# Altium footprint library con-weidmueller-sl35.PCBLIB: 184 footprints (part 6 of 12)
Each footprint in its own frame and in the unit in brackets; x right, y up, seen from the top. Pads: shape width x height; smd on the part's side, far side on the other; paste and mask are expansions set on the pad; w line width, h text height; cw(c..) or ccw(c..) is an arc to the next point about the centre after c.
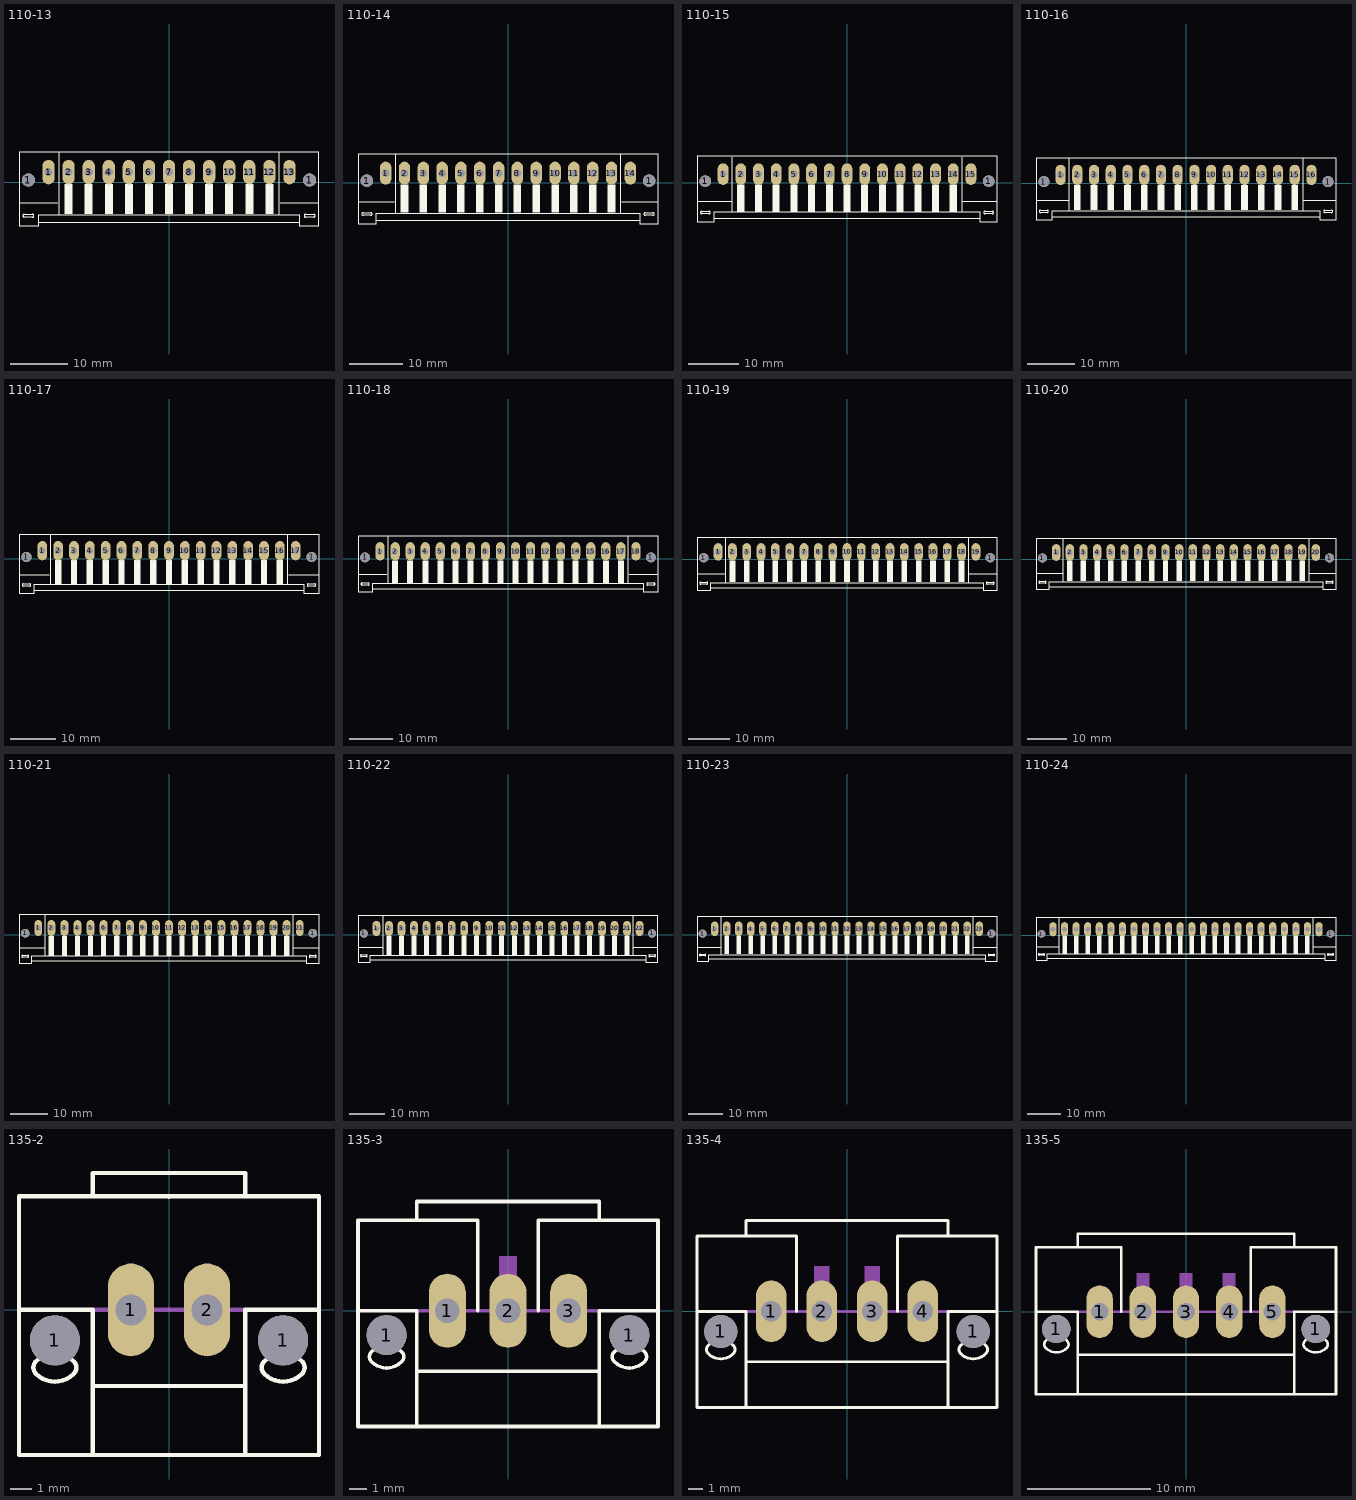
[diagram p5: the footprints below, top view; thin cyan lines are the x and y axes]

## 110-13 [mil]
pads (15):
  round 90.55 hole 90.55: 1(-964.57,13.78) 1(964.57,13.78)
  oval 84x168 hole 56: 1(-826.77,68.9) 2(-688.98,68.9) 3(-551.18,68.9) 4(-413.39,68.9) 5(-275.59,68.9) 6(-137.8,68.9) 7(0,68.9) 8(137.8,68.9) 9(275.59,68.9) 10(413.39,68.9) 11(551.18,68.9) 12(688.98,68.9) 13(826.77,68.9)
Top Overlay:
  rectangle: -716.54,-220.47 -661.42,-13.78
  rectangle: -578.74,-220.47 -523.62,-13.78
  rectangle: -440.94,-220.47 -385.83,-13.78
  rectangle: -303.15,-220.47 -248.03,-13.78
  rectangle: -165.35,-220.47 -110.24,-13.78
  rectangle: -27.56,-220.47 27.56,-13.78
  rectangle: 110.24,-220.47 165.35,-13.78
  rectangle: 248.03,-220.47 303.15,-13.78
  rectangle: 385.83,-220.47 440.94,-13.78
  rectangle: 523.62,-220.47 578.74,-13.78
  rectangle: 661.42,-220.47 716.54,-13.78
  lines w8: -1026.57,-144.69 -764.76,-144.69 ; -757.87,-220.47 -757.87,201.77 ; 757.87,-220.47 757.87,201.77 ; 764.76,-144.69 1026.57,-144.69 ; -895.67,-275.59 -895.67,-301.18 -1029.53,-301.18 -1029.53,206.69 1029.53,206.69 1029.53,-301.18 895.67,-301.18 895.67,-275.59 ; -895.67,-275.59 895.67,-275.59 ; -895.67,-275.59 -895.67,-225.39 895.67,-225.39 895.67,-275.59 ; -992.13,-241.14 cw(c-992.13,-230.81) -992.13,-220.47 -937.01,-220.47 cw(c-937.01,-230.81) -937.01,-241.14 -992.13,-241.14 ; 937.01,-241.14 cw(c937.01,-230.81) 937.01,-220.47 992.13,-220.47 cw(c992.13,-230.81) 992.13,-241.14 937.01,-241.14

## 110-14 [mil]
pads (16):
  round 90.55 hole 90.55: 1(-1033.46,13.78) 1(1033.46,13.78)
  oval 84x168 hole 56: 1(-895.67,68.9) 2(-757.87,68.9) 3(-620.08,68.9) 4(-482.28,68.9) 5(-344.49,68.9) 6(-206.69,68.9) 7(-68.9,68.9) 8(68.9,68.9) 9(206.69,68.9) 10(344.49,68.9) 11(482.28,68.9) 12(620.08,68.9) 13(757.87,68.9) 14(895.67,68.9)
Top Overlay:
  rectangle: -785.43,-220.47 -730.32,-13.78
  rectangle: -647.64,-220.47 -592.52,-13.78
  rectangle: -509.84,-220.47 -454.72,-13.78
  rectangle: -372.05,-220.47 -316.93,-13.78
  rectangle: -234.25,-220.47 -179.13,-13.78
  rectangle: -96.46,-220.47 -41.34,-13.78
  rectangle: 41.34,-220.47 96.46,-13.78
  rectangle: 179.13,-220.47 234.25,-13.78
  rectangle: 316.93,-220.47 372.05,-13.78
  rectangle: 454.72,-220.47 509.84,-13.78
  rectangle: 592.52,-220.47 647.64,-13.78
  rectangle: 730.32,-220.47 785.43,-13.78
  lines w8: -1095.47,-144.69 -833.66,-144.69 ; -826.77,-220.47 -826.77,201.77 ; 826.77,-220.47 826.77,201.77 ; 833.66,-144.69 1095.47,-144.69 ; -964.57,-275.59 -964.57,-301.18 -1098.43,-301.18 -1098.43,206.69 1098.43,206.69 1098.43,-301.18 964.57,-301.18 964.57,-275.59 ; -964.57,-275.59 964.57,-275.59 ; -964.57,-275.59 -964.57,-225.39 964.57,-225.39 964.57,-275.59 ; -1061.02,-241.14 cw(c-1061.02,-230.81) -1061.02,-220.47 -1005.91,-220.47 cw(c-1005.91,-230.81) -1005.91,-241.14 -1061.02,-241.14 ; 1005.91,-241.14 cw(c1005.91,-230.81) 1005.91,-220.47 1061.02,-220.47 cw(c1061.02,-230.81) 1061.02,-241.14 1005.91,-241.14

## 110-15 [mil]
pads (17):
  round 90.55 hole 90.55: 1(-1102.36,13.78) 1(1102.36,13.78)
  oval 84x168 hole 56: 1(-964.57,68.9) 2(-826.77,68.9) 3(-688.98,68.9) 4(-551.18,68.9) 5(-413.39,68.9) 6(-275.59,68.9) 7(-137.8,68.9) 8(0,68.9) 9(137.8,68.9) 10(275.59,68.9) 11(413.39,68.9) 12(551.18,68.9) 13(688.98,68.9) 14(826.77,68.9) 15(964.57,68.9)
Top Overlay:
  rectangle: -854.33,-220.47 -799.21,-13.78
  rectangle: -716.54,-220.47 -661.42,-13.78
  rectangle: -578.74,-220.47 -523.62,-13.78
  rectangle: -440.94,-220.47 -385.83,-13.78
  rectangle: -303.15,-220.47 -248.03,-13.78
  rectangle: -165.35,-220.47 -110.24,-13.78
  rectangle: -27.56,-220.47 27.56,-13.78
  rectangle: 110.24,-220.47 165.35,-13.78
  rectangle: 248.03,-220.47 303.15,-13.78
  rectangle: 385.83,-220.47 440.94,-13.78
  rectangle: 523.62,-220.47 578.74,-13.78
  rectangle: 661.42,-220.47 716.54,-13.78
  rectangle: 799.21,-220.47 854.33,-13.78
  lines w8: -1164.37,-144.69 -902.56,-144.69 ; -895.67,-220.47 -895.67,201.77 ; 895.67,-220.47 895.67,201.77 ; 902.56,-144.69 1164.37,-144.69 ; -1033.46,-275.59 -1033.46,-301.18 -1167.32,-301.18 -1167.32,206.69 1167.32,206.69 1167.32,-301.18 1033.46,-301.18 1033.46,-275.59 ; -1033.46,-275.59 1033.46,-275.59 ; -1033.46,-275.59 -1033.46,-225.39 1033.46,-225.39 1033.46,-275.59 ; -1129.92,-241.14 cw(c-1129.92,-230.81) -1129.92,-220.47 -1074.8,-220.47 cw(c-1074.8,-230.81) -1074.8,-241.14 -1129.92,-241.14 ; 1074.8,-241.14 cw(c1074.8,-230.81) 1074.8,-220.47 1129.92,-220.47 cw(c1129.92,-230.81) 1129.92,-241.14 1074.8,-241.14

## 110-16 [mil]
pads (18):
  round 90.55 hole 90.55: 1(-1171.26,13.78) 1(1171.26,13.78)
  oval 84x168 hole 56: 1(-1033.46,68.9) 2(-895.67,68.9) 3(-757.87,68.9) 4(-620.08,68.9) 5(-482.28,68.9) 6(-344.49,68.9) 7(-206.69,68.9) 8(-68.9,68.9) 9(68.9,68.9) 10(206.69,68.9) 11(344.49,68.9) 12(482.28,68.9) 13(620.08,68.9) 14(757.87,68.9) 15(895.67,68.9) 16(1033.46,68.9)
Top Overlay:
  rectangle: -923.23,-220.47 -868.11,-13.78
  rectangle: -785.43,-220.47 -730.32,-13.78
  rectangle: -647.64,-220.47 -592.52,-13.78
  rectangle: -509.84,-220.47 -454.72,-13.78
  rectangle: -372.05,-220.47 -316.93,-13.78
  rectangle: -234.25,-220.47 -179.13,-13.78
  rectangle: -96.46,-220.47 -41.34,-13.78
  rectangle: 41.34,-220.47 96.46,-13.78
  rectangle: 179.13,-220.47 234.25,-13.78
  rectangle: 316.93,-220.47 372.05,-13.78
  rectangle: 454.72,-220.47 509.84,-13.78
  rectangle: 592.52,-220.47 647.64,-13.78
  rectangle: 730.32,-220.47 785.43,-13.78
  rectangle: 868.11,-220.47 923.23,-13.78
  lines w8: -1233.27,-144.69 -971.46,-144.69 ; -964.57,-220.47 -964.57,201.77 ; 964.57,-220.47 964.57,201.77 ; 971.46,-144.69 1233.27,-144.69 ; -1102.36,-275.59 -1102.36,-301.18 -1236.22,-301.18 -1236.22,206.69 1236.22,206.69 1236.22,-301.18 1102.36,-301.18 1102.36,-275.59 ; -1102.36,-275.59 1102.36,-275.59 ; -1102.36,-275.59 -1102.36,-225.39 1102.36,-225.39 1102.36,-275.59 ; -1198.82,-241.14 cw(c-1198.82,-230.81) -1198.82,-220.47 -1143.7,-220.47 cw(c-1143.7,-230.81) -1143.7,-241.14 -1198.82,-241.14 ; 1143.7,-241.14 cw(c1143.7,-230.81) 1143.7,-220.47 1198.82,-220.47 cw(c1198.82,-230.81) 1198.82,-241.14 1143.7,-241.14

## 110-17 [mil]
pads (19):
  round 90.55 hole 90.55: 1(-1240.16,13.78) 1(1240.16,13.78)
  oval 84x168 hole 56: 1(-1102.36,68.9) 2(-964.57,68.9) 3(-826.77,68.9) 4(-688.98,68.9) 5(-551.18,68.9) 6(-413.39,68.9) 7(-275.59,68.9) 8(-137.8,68.9) 9(0,68.9) 10(137.8,68.9) 11(275.59,68.9) 12(413.39,68.9) 13(551.18,68.9) 14(688.98,68.9) 15(826.77,68.9) 16(964.57,68.9) 17(1102.36,68.9)
Top Overlay:
  rectangle: -992.13,-220.47 -937.01,-13.78
  rectangle: -854.33,-220.47 -799.21,-13.78
  rectangle: -716.54,-220.47 -661.42,-13.78
  rectangle: -578.74,-220.47 -523.62,-13.78
  rectangle: -440.94,-220.47 -385.83,-13.78
  rectangle: -303.15,-220.47 -248.03,-13.78
  rectangle: -165.35,-220.47 -110.24,-13.78
  rectangle: -27.56,-220.47 27.56,-13.78
  rectangle: 110.24,-220.47 165.35,-13.78
  rectangle: 248.03,-220.47 303.15,-13.78
  rectangle: 385.83,-220.47 440.94,-13.78
  rectangle: 523.62,-220.47 578.74,-13.78
  rectangle: 661.42,-220.47 716.54,-13.78
  rectangle: 799.21,-220.47 854.33,-13.78
  rectangle: 937.01,-220.47 992.13,-13.78
  lines w8: -1302.17,-144.69 -1040.35,-144.69 ; -1033.46,-220.47 -1033.46,201.77 ; 1033.46,-220.47 1033.46,201.77 ; 1040.35,-144.69 1302.17,-144.69 ; -1171.26,-275.59 -1171.26,-301.18 -1305.12,-301.18 -1305.12,206.69 1305.12,206.69 1305.12,-301.18 1171.26,-301.18 1171.26,-275.59 ; -1171.26,-275.59 1171.26,-275.59 ; -1171.26,-275.59 -1171.26,-225.39 1171.26,-225.39 1171.26,-275.59 ; -1267.72,-241.14 cw(c-1267.72,-230.81) -1267.72,-220.47 -1212.6,-220.47 cw(c-1212.6,-230.81) -1212.6,-241.14 -1267.72,-241.14 ; 1212.6,-241.14 cw(c1212.6,-230.81) 1212.6,-220.47 1267.72,-220.47 cw(c1267.72,-230.81) 1267.72,-241.14 1212.6,-241.14

## 110-18 [mil]
pads (20):
  round 90.55 hole 90.55: 1(-1309.06,13.78) 1(1309.06,13.78)
  oval 84x168 hole 56: 1(-1171.26,68.9) 2(-1033.46,68.9) 3(-895.67,68.9) 4(-757.87,68.9) 5(-620.08,68.9) 6(-482.28,68.9) 7(-344.49,68.9) 8(-206.69,68.9) 9(-68.9,68.9) 10(68.9,68.9) 11(206.69,68.9) 12(344.49,68.9) 13(482.28,68.9) 14(620.08,68.9) 15(757.87,68.9) 16(895.67,68.9) 17(1033.46,68.9) 18(1171.26,68.9)
Top Overlay:
  rectangle: -1061.02,-220.47 -1005.91,-13.78
  rectangle: -923.23,-220.47 -868.11,-13.78
  rectangle: -785.43,-220.47 -730.32,-13.78
  rectangle: -647.64,-220.47 -592.52,-13.78
  rectangle: -509.84,-220.47 -454.72,-13.78
  rectangle: -372.05,-220.47 -316.93,-13.78
  rectangle: -234.25,-220.47 -179.13,-13.78
  rectangle: -96.46,-220.47 -41.34,-13.78
  rectangle: 41.34,-220.47 96.46,-13.78
  rectangle: 179.13,-220.47 234.25,-13.78
  rectangle: 316.93,-220.47 372.05,-13.78
  rectangle: 454.72,-220.47 509.84,-13.78
  rectangle: 592.52,-220.47 647.64,-13.78
  rectangle: 730.32,-220.47 785.43,-13.78
  rectangle: 868.11,-220.47 923.23,-13.78
  rectangle: 1005.91,-220.47 1061.02,-13.78
  lines w8: -1371.06,-144.69 -1109.25,-144.69 ; -1102.36,-220.47 -1102.36,201.77 ; 1102.36,-220.47 1102.36,201.77 ; 1109.25,-144.69 1371.06,-144.69 ; -1240.16,-275.59 -1240.16,-301.18 -1374.02,-301.18 -1374.02,206.69 1374.02,206.69 1374.02,-301.18 1240.16,-301.18 1240.16,-275.59 ; -1240.16,-275.59 1240.16,-275.59 ; -1240.16,-275.59 -1240.16,-225.39 1240.16,-225.39 1240.16,-275.59 ; -1336.61,-241.14 cw(c-1336.61,-230.81) -1336.61,-220.47 -1281.5,-220.47 cw(c-1281.5,-230.81) -1281.5,-241.14 -1336.61,-241.14 ; 1281.5,-241.14 cw(c1281.5,-230.81) 1281.5,-220.47 1336.61,-220.47 cw(c1336.61,-230.81) 1336.61,-241.14 1281.5,-241.14

## 110-19 [mil]
pads (21):
  round 90.55 hole 90.55: 1(-1377.95,13.78) 1(1377.95,13.78)
  oval 84x168 hole 56: 1(-1240.16,68.9) 2(-1102.36,68.9) 3(-964.57,68.9) 4(-826.77,68.9) 5(-688.98,68.9) 6(-551.18,68.9) 7(-413.39,68.9) 8(-275.59,68.9) 9(-137.8,68.9) 10(0,68.9) 11(137.8,68.9) 12(275.59,68.9) 13(413.39,68.9) 14(551.18,68.9) 15(688.98,68.9) 16(826.77,68.9) 17(964.57,68.9) 18(1102.36,68.9) 19(1240.16,68.9)
Top Overlay:
  rectangle: -1129.92,-220.47 -1074.8,-13.78
  rectangle: -992.13,-220.47 -937.01,-13.78
  rectangle: -854.33,-220.47 -799.21,-13.78
  rectangle: -716.54,-220.47 -661.42,-13.78
  rectangle: -578.74,-220.47 -523.62,-13.78
  rectangle: -440.94,-220.47 -385.83,-13.78
  rectangle: -303.15,-220.47 -248.03,-13.78
  rectangle: -165.35,-220.47 -110.24,-13.78
  rectangle: -27.56,-220.47 27.56,-13.78
  rectangle: 110.24,-220.47 165.35,-13.78
  rectangle: 248.03,-220.47 303.15,-13.78
  rectangle: 385.83,-220.47 440.94,-13.78
  rectangle: 523.62,-220.47 578.74,-13.78
  rectangle: 661.42,-220.47 716.54,-13.78
  rectangle: 799.21,-220.47 854.33,-13.78
  rectangle: 937.01,-220.47 992.13,-13.78
  rectangle: 1074.8,-220.47 1129.92,-13.78
  lines w8: -1439.96,-144.69 -1178.15,-144.69 ; -1171.26,-220.47 -1171.26,201.77 ; 1171.26,-220.47 1171.26,201.77 ; 1178.15,-144.69 1439.96,-144.69 ; -1309.06,-275.59 -1309.06,-301.18 -1442.91,-301.18 -1442.91,206.69 1442.91,206.69 1442.91,-301.18 1309.06,-301.18 1309.06,-275.59 ; -1309.06,-275.59 1309.06,-275.59 ; -1309.06,-275.59 -1309.06,-225.39 1309.06,-225.39 1309.06,-275.59 ; -1405.51,-241.14 cw(c-1405.51,-230.81) -1405.51,-220.47 -1350.39,-220.47 cw(c-1350.39,-230.81) -1350.39,-241.14 -1405.51,-241.14 ; 1350.39,-241.14 cw(c1350.39,-230.81) 1350.39,-220.47 1405.51,-220.47 cw(c1405.51,-230.81) 1405.51,-241.14 1350.39,-241.14

## 110-20 [mil]
pads (22):
  round 90.55 hole 90.55: 1(-1446.85,13.78) 1(1446.85,13.78)
  oval 84x168 hole 56: 1(-1309.06,68.9) 2(-1171.26,68.9) 3(-1033.46,68.9) 4(-895.67,68.9) 5(-757.87,68.9) 6(-620.08,68.9) 7(-482.28,68.9) 8(-344.49,68.9) 9(-206.69,68.9) 10(-68.9,68.9) 11(68.9,68.9) 12(206.69,68.9) 13(344.49,68.9) 14(482.28,68.9) 15(620.08,68.9) 16(757.87,68.9) 17(895.67,68.9) 18(1033.46,68.9) 19(1171.26,68.9) 20(1309.06,68.9)
Top Overlay:
  rectangle: -1198.82,-220.47 -1143.7,-13.78
  rectangle: -1061.02,-220.47 -1005.91,-13.78
  rectangle: -923.23,-220.47 -868.11,-13.78
  rectangle: -785.43,-220.47 -730.32,-13.78
  rectangle: -647.64,-220.47 -592.52,-13.78
  rectangle: -509.84,-220.47 -454.72,-13.78
  rectangle: -372.05,-220.47 -316.93,-13.78
  rectangle: -234.25,-220.47 -179.13,-13.78
  rectangle: -96.46,-220.47 -41.34,-13.78
  rectangle: 41.34,-220.47 96.46,-13.78
  rectangle: 179.13,-220.47 234.25,-13.78
  rectangle: 316.93,-220.47 372.05,-13.78
  rectangle: 454.72,-220.47 509.84,-13.78
  rectangle: 592.52,-220.47 647.64,-13.78
  rectangle: 730.32,-220.47 785.43,-13.78
  rectangle: 868.11,-220.47 923.23,-13.78
  rectangle: 1005.91,-220.47 1061.02,-13.78
  rectangle: 1143.7,-220.47 1198.82,-13.78
  lines w8: -1508.86,-144.69 -1247.05,-144.69 ; -1240.16,-220.47 -1240.16,201.77 ; 1240.16,-220.47 1240.16,201.77 ; 1247.05,-144.69 1508.86,-144.69 ; -1377.95,-275.59 -1377.95,-301.18 -1511.81,-301.18 -1511.81,206.69 1511.81,206.69 1511.81,-301.18 1377.95,-301.18 1377.95,-275.59 ; -1377.95,-275.59 1377.95,-275.59 ; -1377.95,-275.59 -1377.95,-225.39 1377.95,-225.39 1377.95,-275.59 ; -1474.41,-241.14 cw(c-1474.41,-230.81) -1474.41,-220.47 -1419.29,-220.47 cw(c-1419.29,-230.81) -1419.29,-241.14 -1474.41,-241.14 ; 1419.29,-241.14 cw(c1419.29,-230.81) 1419.29,-220.47 1474.41,-220.47 cw(c1474.41,-230.81) 1474.41,-241.14 1419.29,-241.14

## 110-21 [mil]
pads (23):
  round 90.55 hole 90.55: 1(-1515.75,13.78) 1(1515.75,13.78)
  oval 84x168 hole 56: 1(-1377.95,68.9) 2(-1240.16,68.9) 3(-1102.36,68.9) 4(-964.57,68.9) 5(-826.77,68.9) 6(-688.98,68.9) 7(-551.18,68.9) 8(-413.39,68.9) 9(-275.59,68.9) 10(-137.8,68.9) 11(0,68.9) 12(137.8,68.9) 13(275.59,68.9) 14(413.39,68.9) 15(551.18,68.9) 16(688.98,68.9) 17(826.77,68.9) 18(964.57,68.9) 19(1102.36,68.9) 20(1240.16,68.9) 21(1377.95,68.9)
Top Overlay:
  rectangle: -1267.72,-220.47 -1212.6,-13.78
  rectangle: -1129.92,-220.47 -1074.8,-13.78
  rectangle: -992.13,-220.47 -937.01,-13.78
  rectangle: -854.33,-220.47 -799.21,-13.78
  rectangle: -716.54,-220.47 -661.42,-13.78
  rectangle: -578.74,-220.47 -523.62,-13.78
  rectangle: -440.94,-220.47 -385.83,-13.78
  rectangle: -303.15,-220.47 -248.03,-13.78
  rectangle: -165.35,-220.47 -110.24,-13.78
  rectangle: -27.56,-220.47 27.56,-13.78
  rectangle: 110.24,-220.47 165.35,-13.78
  rectangle: 248.03,-220.47 303.15,-13.78
  rectangle: 385.83,-220.47 440.94,-13.78
  rectangle: 523.62,-220.47 578.74,-13.78
  rectangle: 661.42,-220.47 716.54,-13.78
  rectangle: 799.21,-220.47 854.33,-13.78
  rectangle: 937.01,-220.47 992.13,-13.78
  rectangle: 1074.8,-220.47 1129.92,-13.78
  rectangle: 1212.6,-220.47 1267.72,-13.78
  lines w8: -1577.76,-144.69 -1315.94,-144.69 ; -1309.06,-220.47 -1309.06,201.77 ; 1309.06,-220.47 1309.06,201.77 ; 1315.94,-144.69 1577.76,-144.69 ; -1446.85,-275.59 -1446.85,-301.18 -1580.71,-301.18 -1580.71,206.69 1580.71,206.69 1580.71,-301.18 1446.85,-301.18 1446.85,-275.59 ; -1446.85,-275.59 1446.85,-275.59 ; -1446.85,-275.59 -1446.85,-225.39 1446.85,-225.39 1446.85,-275.59 ; -1543.31,-241.14 cw(c-1543.31,-230.81) -1543.31,-220.47 -1488.19,-220.47 cw(c-1488.19,-230.81) -1488.19,-241.14 -1543.31,-241.14 ; 1488.19,-241.14 cw(c1488.19,-230.81) 1488.19,-220.47 1543.31,-220.47 cw(c1543.31,-230.81) 1543.31,-241.14 1488.19,-241.14

## 110-22 [mil]
pads (24):
  round 90.55 hole 90.55: 1(-1584.65,13.78) 1(1584.65,13.78)
  oval 84x168 hole 56: 1(-1446.85,68.9) 2(-1309.06,68.9) 3(-1171.26,68.9) 4(-1033.46,68.9) 5(-895.67,68.9) 6(-757.87,68.9) 7(-620.08,68.9) 8(-482.28,68.9) 9(-344.49,68.9) 10(-206.69,68.9) 11(-68.9,68.9) 12(68.9,68.9) 13(206.69,68.9) 14(344.49,68.9) 15(482.28,68.9) 16(620.08,68.9) 17(757.87,68.9) 18(895.67,68.9) 19(1033.46,68.9) 20(1171.26,68.9) 21(1309.06,68.9) 22(1446.85,68.9)
Top Overlay:
  rectangle: -1336.61,-220.47 -1281.5,-13.78
  rectangle: -1198.82,-220.47 -1143.7,-13.78
  rectangle: -1061.02,-220.47 -1005.91,-13.78
  rectangle: -923.23,-220.47 -868.11,-13.78
  rectangle: -785.43,-220.47 -730.32,-13.78
  rectangle: -647.64,-220.47 -592.52,-13.78
  rectangle: -509.84,-220.47 -454.72,-13.78
  rectangle: -372.05,-220.47 -316.93,-13.78
  rectangle: -234.25,-220.47 -179.13,-13.78
  rectangle: -96.46,-220.47 -41.34,-13.78
  rectangle: 41.34,-220.47 96.46,-13.78
  rectangle: 179.13,-220.47 234.25,-13.78
  rectangle: 316.93,-220.47 372.05,-13.78
  rectangle: 454.72,-220.47 509.84,-13.78
  rectangle: 592.52,-220.47 647.64,-13.78
  rectangle: 730.32,-220.47 785.43,-13.78
  rectangle: 868.11,-220.47 923.23,-13.78
  rectangle: 1005.91,-220.47 1061.02,-13.78
  rectangle: 1143.7,-220.47 1198.82,-13.78
  rectangle: 1281.5,-220.47 1336.61,-13.78
  lines w8: -1646.65,-144.69 -1384.84,-144.69 ; -1377.95,-220.47 -1377.95,201.77 ; 1377.95,-220.47 1377.95,201.77 ; 1384.84,-144.69 1646.65,-144.69 ; -1515.75,-275.59 -1515.75,-301.18 -1649.61,-301.18 -1649.61,206.69 1649.61,206.69 1649.61,-301.18 1515.75,-301.18 1515.75,-275.59 ; -1515.75,-275.59 1515.75,-275.59 ; -1515.75,-275.59 -1515.75,-225.39 1515.75,-225.39 1515.75,-275.59 ; -1612.2,-241.14 cw(c-1612.2,-230.81) -1612.2,-220.47 -1557.09,-220.47 cw(c-1557.09,-230.81) -1557.09,-241.14 -1612.2,-241.14 ; 1557.09,-241.14 cw(c1557.09,-230.81) 1557.09,-220.47 1612.2,-220.47 cw(c1612.2,-230.81) 1612.2,-241.14 1557.09,-241.14

## 110-23 [mil]
pads (25):
  round 90.55 hole 90.55: 1(-1653.54,13.78) 1(1653.54,13.78)
  oval 84x168 hole 56: 1(-1515.75,68.9) 2(-1377.95,68.9) 3(-1240.16,68.9) 4(-1102.36,68.9) 5(-964.57,68.9) 6(-826.77,68.9) 7(-688.98,68.9) 8(-551.18,68.9) 9(-413.39,68.9) 10(-275.59,68.9) 11(-137.8,68.9) 12(0,68.9) 13(137.8,68.9) 14(275.59,68.9) 15(413.39,68.9) 16(551.18,68.9) 17(688.98,68.9) 18(826.77,68.9) 19(964.57,68.9) 20(1102.36,68.9) 21(1240.16,68.9) 22(1377.95,68.9) 23(1515.75,68.9)
Top Overlay:
  rectangle: -1405.51,-220.47 -1350.39,-13.78
  rectangle: -1267.72,-220.47 -1212.6,-13.78
  rectangle: -1129.92,-220.47 -1074.8,-13.78
  rectangle: -992.13,-220.47 -937.01,-13.78
  rectangle: -854.33,-220.47 -799.21,-13.78
  rectangle: -716.54,-220.47 -661.42,-13.78
  rectangle: -578.74,-220.47 -523.62,-13.78
  rectangle: -440.94,-220.47 -385.83,-13.78
  rectangle: -303.15,-220.47 -248.03,-13.78
  rectangle: -165.35,-220.47 -110.24,-13.78
  rectangle: -27.56,-220.47 27.56,-13.78
  rectangle: 110.24,-220.47 165.35,-13.78
  rectangle: 248.03,-220.47 303.15,-13.78
  rectangle: 385.83,-220.47 440.94,-13.78
  rectangle: 523.62,-220.47 578.74,-13.78
  rectangle: 661.42,-220.47 716.54,-13.78
  rectangle: 799.21,-220.47 854.33,-13.78
  rectangle: 937.01,-220.47 992.13,-13.78
  rectangle: 1074.8,-220.47 1129.92,-13.78
  rectangle: 1212.6,-220.47 1267.72,-13.78
  rectangle: 1350.39,-220.47 1405.51,-13.78
  lines w8: -1715.55,-144.69 -1453.74,-144.69 ; -1446.85,-220.47 -1446.85,201.77 ; 1446.85,-220.47 1446.85,201.77 ; 1453.74,-144.69 1715.55,-144.69 ; -1584.65,-275.59 -1584.65,-301.18 -1718.5,-301.18 -1718.5,206.69 1718.5,206.69 1718.5,-301.18 1584.65,-301.18 1584.65,-275.59 ; -1584.65,-275.59 1584.65,-275.59 ; -1584.65,-275.59 -1584.65,-225.39 1584.65,-225.39 1584.65,-275.59 ; -1681.1,-241.14 cw(c-1681.1,-230.81) -1681.1,-220.47 -1625.98,-220.47 cw(c-1625.98,-230.81) -1625.98,-241.14 -1681.1,-241.14 ; 1625.98,-241.14 cw(c1625.98,-230.81) 1625.98,-220.47 1681.1,-220.47 cw(c1681.1,-230.81) 1681.1,-241.14 1625.98,-241.14

## 110-24 [mil]
pads (26):
  round 90.55 hole 90.55: 1(-1722.44,13.78) 1(1722.44,13.78)
  oval 84x168 hole 56: 1(-1584.65,68.9) 2(-1446.85,68.9) 3(-1309.06,68.9) 4(-1171.26,68.9) 5(-1033.46,68.9) 6(-895.67,68.9) 7(-757.87,68.9) 8(-620.08,68.9) 9(-482.28,68.9) 10(-344.49,68.9) 11(-206.69,68.9) 12(-68.9,68.9) 13(68.9,68.9) 14(206.69,68.9) 15(344.49,68.9) 16(482.28,68.9) 17(620.08,68.9) 18(757.87,68.9) 19(895.67,68.9) 20(1033.46,68.9) 21(1171.26,68.9) 22(1309.06,68.9) 23(1446.85,68.9) 24(1584.65,68.9)
Top Overlay:
  rectangle: -1474.41,-220.47 -1419.29,-13.78
  rectangle: -1336.61,-220.47 -1281.5,-13.78
  rectangle: -1198.82,-220.47 -1143.7,-13.78
  rectangle: -1061.02,-220.47 -1005.91,-13.78
  rectangle: -923.23,-220.47 -868.11,-13.78
  rectangle: -785.43,-220.47 -730.32,-13.78
  rectangle: -647.64,-220.47 -592.52,-13.78
  rectangle: -509.84,-220.47 -454.72,-13.78
  rectangle: -372.05,-220.47 -316.93,-13.78
  rectangle: -234.25,-220.47 -179.13,-13.78
  rectangle: -96.46,-220.47 -41.34,-13.78
  rectangle: 41.34,-220.47 96.46,-13.78
  rectangle: 179.13,-220.47 234.25,-13.78
  rectangle: 316.93,-220.47 372.05,-13.78
  rectangle: 454.72,-220.47 509.84,-13.78
  rectangle: 592.52,-220.47 647.64,-13.78
  rectangle: 730.32,-220.47 785.43,-13.78
  rectangle: 868.11,-220.47 923.23,-13.78
  rectangle: 1005.91,-220.47 1061.02,-13.78
  rectangle: 1143.7,-220.47 1198.82,-13.78
  rectangle: 1281.5,-220.47 1336.61,-13.78
  rectangle: 1419.29,-220.47 1474.41,-13.78
  lines w8: -1784.45,-144.69 -1522.64,-144.69 ; -1515.75,-220.47 -1515.75,201.77 ; 1515.75,-220.47 1515.75,201.77 ; 1522.64,-144.69 1784.45,-144.69 ; -1653.54,-275.59 -1653.54,-301.18 -1787.4,-301.18 -1787.4,206.69 1787.4,206.69 1787.4,-301.18 1653.54,-301.18 1653.54,-275.59 ; -1653.54,-275.59 1653.54,-275.59 ; -1653.54,-275.59 -1653.54,-225.39 1653.54,-225.39 1653.54,-275.59 ; -1750,-241.14 cw(c-1750,-230.81) -1750,-220.47 -1694.88,-220.47 cw(c-1694.88,-230.81) -1694.88,-241.14 -1750,-241.14 ; 1694.88,-241.14 cw(c1694.88,-230.81) 1694.88,-220.47 1750,-220.47 cw(c1750,-230.81) 1750,-241.14 1694.88,-241.14

## 135-2 [mil]
pads (4):
  round 90.55 hole 90.55: 1(-206.69,-55.12) 1(206.69,-55.12)
  oval 84x168 hole 56: 1(-68.9,0) 2(68.9,0)
Top Overlay:
  lines w8: -271.65,204.72 -271.65,0 ; -271.65,205.71 0,205.71 ; -137.8,-261.81 -137.8,-137.8 ; -137.8,208.66 -137.8,248.03 137.8,248.03 137.8,208.66 ; 0,204.72 0,205.71 ; 137.8,-261.81 137.8,-137.8 ; 271.65,204.72 271.65,0 ; 271.65,205.71 0,205.71 ; -271.65,0 -271.65,-262.8 271.65,-262.8 271.65,0 ; -271.65,0 -137.8,0 -137.8,-137.8 ; -137.8,-137.8 137.8,-137.8 ; 137.8,-137.8 137.8,0 271.65,0 ; -240.16,-116.14 cw(c-230.32,-104.33) -240.16,-92.52 cw(c-206.69,-125.98) -173.23,-92.52 cw(c-183.07,-104.33) -173.23,-116.14 cw(c-206.69,-82.67) -240.16,-116.14 ; 173.23,-116.14 cw(c183.07,-104.33) 173.23,-92.52 cw(c206.69,-125.98) 240.16,-92.52 cw(c230.32,-104.33) 240.16,-116.14 cw(c206.69,-82.67) 173.23,-116.14
Mechanical 16:
  lines w8: -137.8,0 137.8,0

## 135-3 [mil]
pads (5):
  round 90.55 hole 90.55: 1(-275.59,-55.12) 1(275.59,-55.12)
  oval 84x168 hole 56: 1(-137.8,0) 2(0,0) 3(137.8,0)
Top Overlay:
  lines w8: -340.55,204.72 -340.55,0 ; -340.55,205.71 -68.9,205.71 -68.9,204.72 ; -206.69,-261.81 -206.69,-137.8 ; -206.69,208.66 -206.69,248.03 206.69,248.03 206.69,208.66 ; -68.9,0 -68.9,203.74 ; 68.9,0 68.9,203.74 ; 68.9,204.72 68.9,205.71 340.55,205.71 ; 206.69,-261.81 206.69,-137.8 ; 340.55,204.72 340.55,0 ; -340.55,0 -340.55,-262.8 340.55,-262.8 340.55,0 ; -340.55,0 -206.69,0 -206.69,-137.8 ; -206.69,-137.8 206.69,-137.8 ; 206.69,-137.8 206.69,0 340.55,0 ; -309.06,-116.14 cw(c-299.22,-104.33) -309.06,-92.52 cw(c-275.6,-125.98) -242.13,-92.52 cw(c-251.97,-104.33) -242.13,-116.14 cw(c-275.6,-82.67) -309.06,-116.14 ; 242.13,-116.14 cw(c251.97,-104.33) 242.13,-92.52 cw(c275.6,-125.98) 309.06,-92.52 cw(c299.22,-104.33) 309.06,-116.14 cw(c275.6,-82.67) 242.13,-116.14
Mechanical 16:
  rectangle: -20.67,0 20.67,124.02
  lines w8: -206.69,0 206.69,0

## 135-4 [mil]
pads (6):
  round 90.55 hole 90.55: 1(-344.49,-55.12) 1(344.49,-55.12)
  oval 84x168 hole 56: 1(-206.69,0) 2(-68.9,0) 3(68.9,0) 4(206.69,0)
Top Overlay:
  lines w8: -409.45,204.72 -409.45,0 ; -409.45,205.71 -137.8,205.71 -137.8,204.72 ; -275.59,-261.81 -275.59,-137.8 ; -275.59,208.66 -275.59,248.03 275.59,248.03 275.59,208.66 ; -137.8,0 -137.8,203.74 ; 137.8,0 137.8,203.74 ; 137.8,204.72 137.8,205.71 409.45,205.71 ; 275.59,-261.81 275.59,-137.8 ; 409.45,204.72 409.45,0 ; -409.45,0 -409.45,-262.8 409.45,-262.8 409.45,0 ; -409.45,0 -275.59,0 -275.59,-137.8 ; -275.59,-137.8 275.59,-137.8 ; 275.59,-137.8 275.59,0 409.45,0 ; -377.95,-116.14 cw(c-368.11,-104.33) -377.95,-92.52 cw(c-344.49,-125.98) -311.02,-92.52 cw(c-320.86,-104.33) -311.02,-116.14 cw(c-344.49,-82.67) -377.95,-116.14 ; 311.02,-116.14 cw(c320.86,-104.33) 311.02,-92.52 cw(c344.49,-125.98) 377.95,-92.52 cw(c368.11,-104.33) 377.95,-116.14 cw(c344.49,-82.67) 311.02,-116.14
Mechanical 16:
  rectangle: -89.57,0 -48.23,124.02
  rectangle: 48.23,0 89.57,124.02
  lines w8: -275.59,0 275.59,0

## 135-5 [mil]
pads (7):
  round 90.55 hole 90.55: 1(-413.39,-55.12) 1(413.39,-55.12)
  oval 84x168 hole 56: 1(-275.59,0) 2(-137.8,0) 3(0,0) 4(137.8,0) 5(275.59,0)
Top Overlay:
  lines w8: -478.35,204.72 -478.35,0 ; -478.35,205.71 -206.69,205.71 -206.69,204.72 ; -344.49,-261.81 -344.49,-137.8 ; -344.49,208.66 -344.49,248.03 344.49,248.03 344.49,208.66 ; -206.69,0 -206.69,203.74 ; 206.69,0 206.69,203.74 ; 206.69,204.72 206.69,205.71 478.35,205.71 ; 344.49,-261.81 344.49,-137.8 ; 478.35,204.72 478.35,0 ; -478.35,0 -478.35,-262.8 478.35,-262.8 478.35,0 ; -478.35,0 -344.49,0 -344.49,-137.8 ; -344.49,-137.8 344.49,-137.8 ; 344.49,-137.8 344.49,0 478.35,0 ; -446.85,-116.14 cw(c-437.01,-104.33) -446.85,-92.52 cw(c-413.38,-125.98) -379.92,-92.52 cw(c-389.76,-104.33) -379.92,-116.14 cw(c-413.38,-82.67) -446.85,-116.14 ; 379.92,-116.14 cw(c389.76,-104.33) 379.92,-92.52 cw(c413.38,-125.98) 446.85,-92.52 cw(c437.01,-104.33) 446.85,-116.14 cw(c413.38,-82.67) 379.92,-116.14
Mechanical 16:
  rectangle: -158.46,0 -117.13,124.02
  rectangle: -20.67,0 20.67,124.02
  rectangle: 117.13,0 158.46,124.02
  lines w8: -344.49,0 344.49,0